# Altium footprint library LM335AZNOPB.PcbLib: 1 footprints
Each footprint in its own frame and in the unit in brackets; x right, y up, seen from the top. Pads: shape width x height; smd on the part's side, far side on the other; paste and mask are expansions set on the pad; w line width, h text height; cw(c..) or ccw(c..) is an arc to the next point about the centre after c.
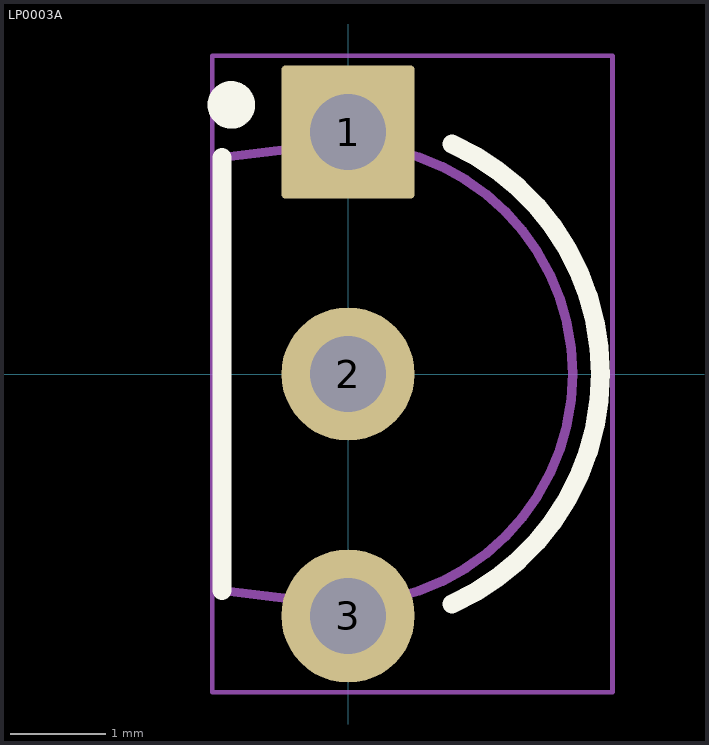
[diagram p0: the footprint, top view; thin cyan lines are the x and y axes]

## LP0003A [mm] "TO, Flat Index; 3 In-Line, Formed Axial Leads; Body Dia. 4.8mm; Leads 0.56 x 0.41 mm (max)"
height 9.33
pads (3):
  rrect7% 1.4x1.4 hole 0.8: 1(0,2.54)
  round 1.4 hole 0.8: 2(0,0) 3(0,-2.54)
Top Overlay:
  circle w0.25: c-1.225,2.825 r0.125
  lines w0.2: -1.325,-2.273 -1.325,2.273 ; 1.092,-2.415 ccw(c0,0) 1.092,2.415
Mechanical 1:
  text ".Designator" at -1.009,-0.429 h0.76
Mechanical 13:
  lines w0.1: 0.195,-2.4 0.195,-2.722 0.195,-2.83 -0.185,-2.83 -0.185,-2.722 -0.185,-2.412 ; 0.195,2.4 0.195,2.722 0.195,2.83 -0.185,2.83 -0.185,2.722 -0.185,2.412 ; -0.185,-2.412 -1.325,-2.273 -1.325,2.273 -0.185,2.412 ; -0.185,-2.412 -0.055,-2.412 ccw(c-0.055,0) -0.055,2.412 -0.185,2.412
Mechanical 15:
  lines w0.05: -1.425,-3.34 -1.425,3.34 2.775,3.34 2.775,-3.34 -1.425,-3.34
  lines w0.1: -0.5,0 0.5,0 ; 0,-0.5 0,0.5
3D body "LP0003B.stp": height 9.01, standoff -8.51, extent -1.333,-2.83 2.349,2.83